# EAGLE library part MS5803 (library SSI)
MS5803 Barometric Pressure Sensor
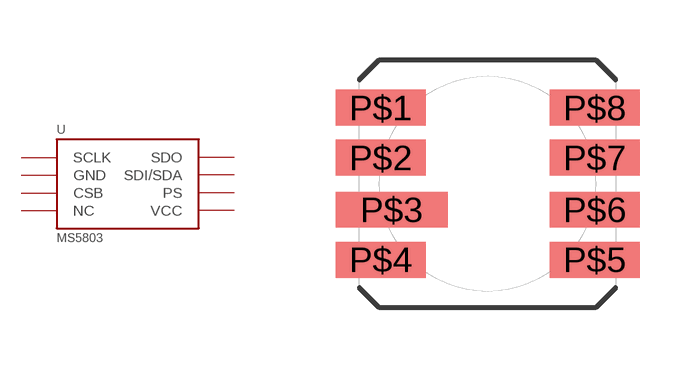
[diagram p22: symbol with the pads of MS5803; footprint MS5803]

Designator prefix -

## MS5803  [MS5803]
P$1  SCLK
P$2  GND
P$3  CSB
P$4  NC
P$5  VCC
P$6  PS
P$7  SDI/SDA
P$8  SDO

## Footprint MS5803 (pad centres in mm)
MS5803 Pressure Sensor
smd 2.25 x 0.9: P$1 -2.675,1.9; P$2 -2.675,0.65; P$4 -2.675,-1.9; P$5 2.675,-1.9; P$6 2.675,-0.65; P$7 2.675,0.65; P$8 2.675,1.9
smd 2.8 x 0.9: P$3 -2.4,-0.65